# Altium schematic symbol library JTAG_Header_Sullins_GRPB071VWTC-RC.SchLib: 1 symbol
Pins are listed as number, name and electrical type; pins without a type are passive.

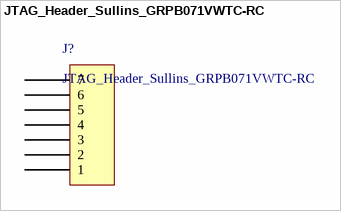
[diagram p0: symbol JTAG_Header_Sullins_GRPB071VWTC-RC]

## JTAG_Header_Sullins_GRPB071VWTC-RC
designator J?
pins: 1, 2, 3, 4, 5, 6, 7